# EAGLE library part MCP2517FD (library ck_custom)
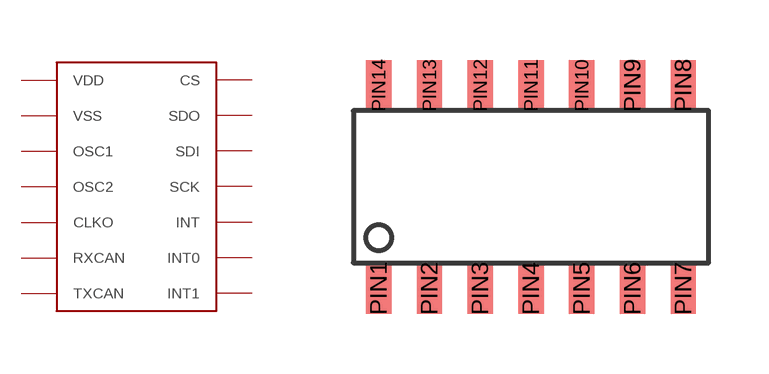
[diagram p11: symbol with the pads of SOIC14; footprint SOIC14]

Designator prefix -

## MCP2517FD  [SOIC14]
PIN1  TXCAN
PIN2  RXCAN
PIN3  CLKO
PIN4  INT
PIN5  OSC2
PIN6  OSC1
PIN7  VSS
PIN8  INT1
PIN9  INT0
PIN10  SCK
PIN11  SDI
PIN12  SDO
PIN13  CS
PIN14  VDD

## Footprint SOIC14 (pad centres in mm)
smd 0.635 x 1.27: PIN1 0.635,-0.635; PIN2 1.905,-0.635; PIN3 3.175,-0.635; PIN4 4.445,-0.635; PIN5 5.715,-0.635; PIN6 6.985,-0.635; PIN7 8.255,-0.635; PIN8 8.255,4.445; PIN9 6.985,4.445; PIN10 5.715,4.445; PIN11 4.445,4.445; PIN12 3.175,4.445; PIN13 1.905,4.445; PIN14 0.635,4.445